# Altium footprint library RGB_0606.PcbLib: 1 footprints
Each footprint in its own frame and in the unit in brackets; x right, y up, seen from the top. Pads: shape width x height; smd on the part's side, far side on the other; paste and mask are expansions set on the pad; w line width, h text height; cw(c..) or ccw(c..) is an arc to the next point about the centre after c.
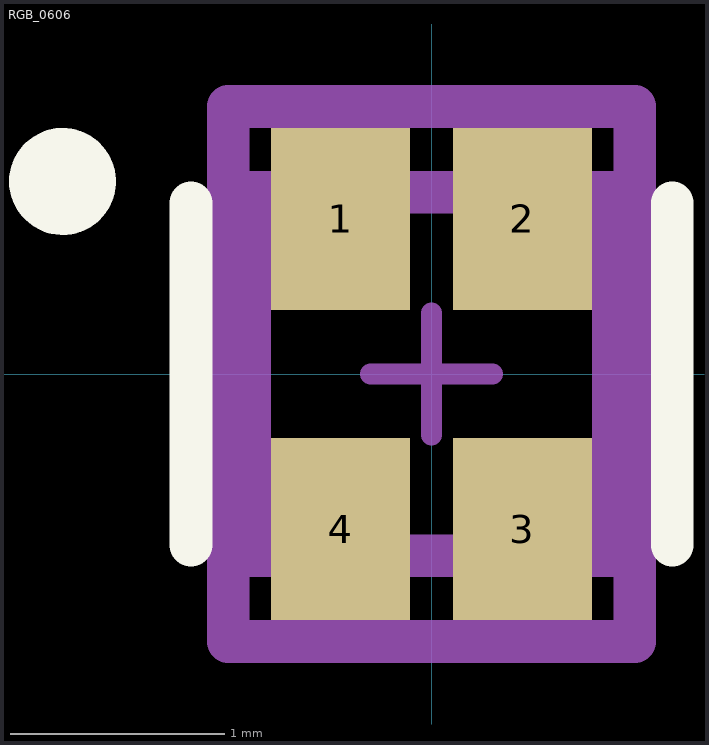
[diagram p0: the footprint, top view; thin cyan lines are the x and y axes]

## RGB_0606 [mm]
pads (4):
  rect 0.65x0.85 smd paste+0 mask+0: 1(-0.425,0.725) 2(0.425,0.725) 3(0.425,-0.725) 4(-0.425,-0.725)
Top Overlay:
  circle w0.25: c-1.725,0.9 r0.125
  lines w0.2: -1.125,-0.8 -1.125,0.8 ; 1.125,-0.8 1.125,0.8
Top Assembly:
  lines w0.2: -0.95,-1.25 0.95,-1.25 0.95,1.25 -0.95,1.25 -0.95,-1.25
  text ".Designator" at 0,0.188 h1
Top 3D Body:
  lines w0.2: -0.85,-0.85 0.85,-0.85 0.85,0.85 -0.85,0.85 -0.85,-0.85
Top Courtyard:
  lines w0.2: -0.95,-1.25 0.95,-1.25 0.95,1.25 -0.95,1.25 -0.95,-1.25
Top Component Center:
  lines w0.1: -0.285,0 0.285,0 ; 0,-0.285 0,0.285
3D body "Diode_Lite-On_LTST-C19HE1WT_eec.STEP": height 0.25, standoff 0, extent -0.95,-1.25 0.95,1.25